# EAGLE library part SR2X6B (library divers)
Rotary Switch 2*6 6 separate contacts on each side The dot in the symbol denotes the leftmost contact of the rotary switch (counterclockwise limit)
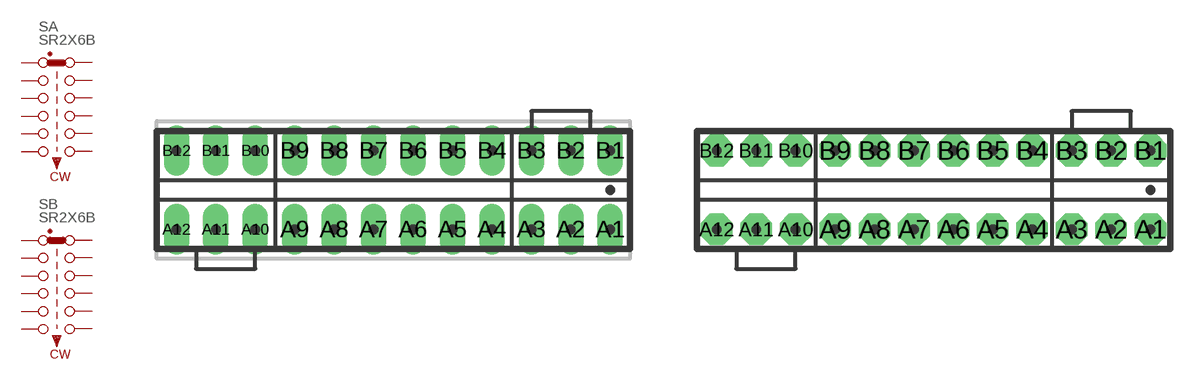
[diagram p17: symbol with the pads of SR1X12BL; footprints SR1X12BL, SR1X12BN]

Designator prefix S; gates A=SR1X6B B=SR1X6B

## SR2X6BL  [SR1X12BL]
A1  A:A1
A2  A:A2
A3  A:A3
A4  A:A4
A5  A:A5
A6  A:A6
A7  B:A1
A8  B:A2
A9  B:A3
A10  B:A4
A11  B:A5
A12  B:A6
B1  A:B1
B2  A:B2
B3  A:B3
B4  A:B4
B5  A:B5
B6  A:B6
B7  B:B1
B8  B:B2
B9  B:B3
B10  B:B4
B11  B:B5
B12  B:B6

## SR2X6BN  [SR1X12BN]
Pads as for SR1X12BL

## SR2X6B  [SR1X12BN]
Pads as for SR1X12BL

## Footprint SR1X12BL (pad centres in mm)
Rotary Switch 1*12 - 2*6 - 3*4 - 4*3, long pads - ELMA Typ 8
drill 1.092 pad 1.397 long: A1 13.97,-2.54; A2 11.43,-2.54; A3 8.89,-2.54; A4 6.35,-2.54; A5 3.81,-2.54; A6 1.27,-2.54; A7 -1.27,-2.54; A8 -3.81,-2.54; A9 -6.35,-2.54; A10 -8.89,-2.54; A11 -11.43,-2.54; A12 -13.97,-2.54; B1 13.97,2.54; B2 11.43,2.54; B3 8.89,2.54; B4 6.35,2.54; B5 3.81,2.54; B6 1.27,2.54; B7 -1.27,2.54; B8 -3.81,2.54; B9 -6.35,2.54; B10 -8.89,2.54; B11 -11.43,2.54; B12 -13.97,2.54

## Footprint SR1X12BN (pad centres in mm)
Rotary Switch 1*12 - 2*6 - 3*4 - 4*3 - ELMA Typ 8
drill 1.092 pad 2.032 octagon: A1 13.97,-2.54; A2 11.43,-2.54; A3 8.89,-2.54; A4 6.35,-2.54; A5 3.81,-2.54; A6 1.27,-2.54; A7 -1.27,-2.54; A8 -3.81,-2.54; A9 -6.35,-2.54; A10 -8.89,-2.54; A11 -11.43,-2.54; A12 -13.97,-2.54; B1 13.97,2.54; B2 11.43,2.54; B3 8.89,2.54; B4 6.35,2.54; B5 3.81,2.54; B6 1.27,2.54; B7 -1.27,2.54; B8 -3.81,2.54; B9 -6.35,2.54; B10 -8.89,2.54; B11 -11.43,2.54; B12 -13.97,2.54